# Altium footprint library passiveCompsLib.PcbLib: 32 footprints (part 2 of 2)
Each footprint in its own frame and in the unit in brackets; x right, y up, seen from the top. Pads: shape width x height; smd on the part's side, far side on the other; paste and mask are expansions set on the pad; w line width, h text height; cw(c..) or ccw(c..) is an arc to the next point about the centre after c.
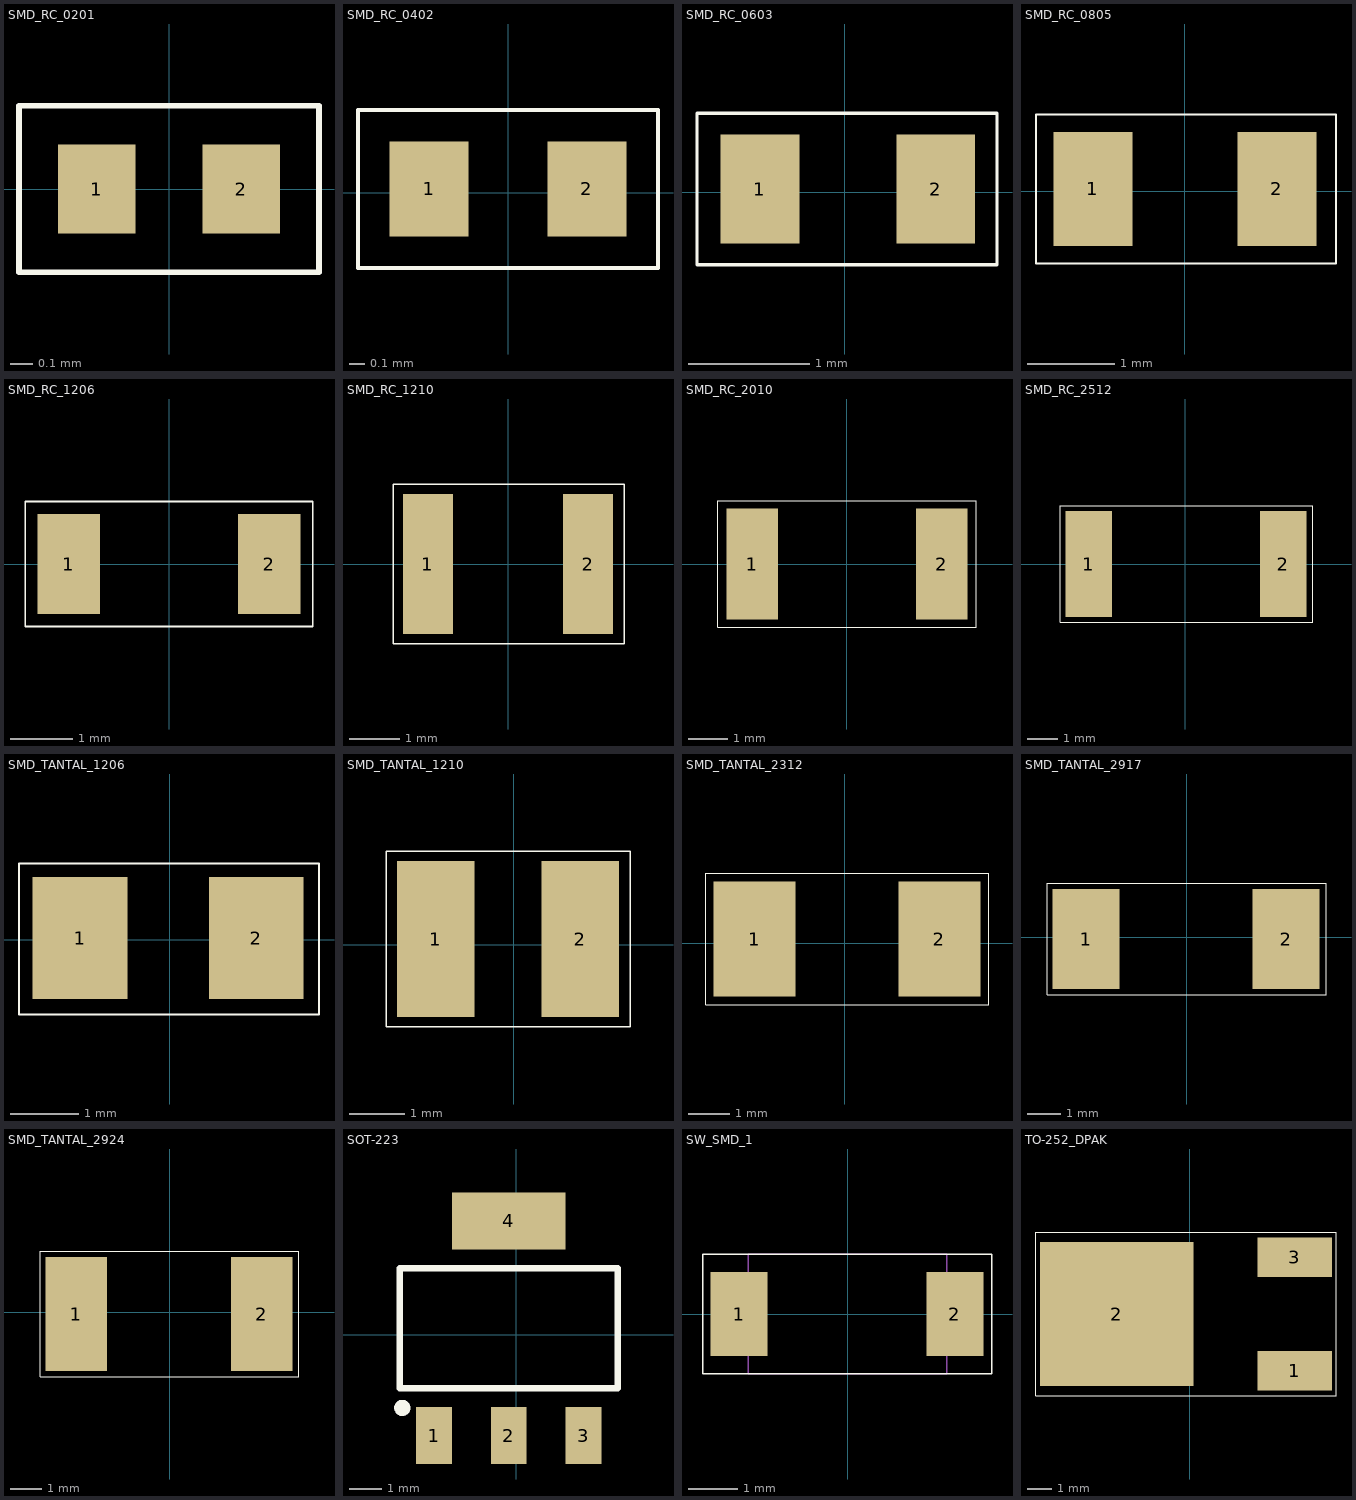
[diagram p1: the footprints below, top view; thin cyan lines are the x and y axes]

## SMD_RC_0201 [mm]
pads (2):
  rect 0.35x0.4 smd: 1(-0.325,0) 2(0.325,0)
Top Overlay:
  lines w0.025: -0.675,-0.375 -0.675,0.375 0.675,0.375 0.675,-0.375 -0.675,-0.375

## SMD_RC_0402 [mm]
pads (2):
  rect 0.5x0.6 smd: 1(-0.5,0.025) 2(0.5,0.025)
Top Overlay:
  lines w0.025: -0.95,-0.475 0.95,-0.475 0.95,0.525 -0.95,0.525 -0.95,-0.475

## SMD_RC_0603 [mm]
pads (2):
  rect 0.65x0.9 smd: 1(-0.7,0.025) 2(0.75,0.025)
Top Overlay:
  lines w0.025: -1.219,-0.6 -1.219,0.65 1.256,0.65 1.256,-0.6 -1.219,-0.6

## SMD_RC_0805 [mm]
pads (2):
  rect 0.9x1.3 smd: 1(-1.05,0.025) 2(1.05,0.025)
Top Overlay:
  lines w0.025: -1.7,-0.825 -1.7,0.875 1.725,0.875 1.725,-0.825 -1.7,-0.825

## SMD_RC_1206 [mm]
pads (2):
  rect 1x1.6 smd: 1(-1.6,0) 2(1.6,0)
Top Overlay:
  lines w0.025: -2.3,-1 -2.3,1 2.3,1 2.3,-1 -2.3,-1

## SMD_RC_1210 [mm]
pads (2):
  rect 1x2.8 smd: 1(-1.6,0) 2(1.6,0)
Top Overlay:
  lines w0.025: -2.3,-1.6 2.325,-1.6 2.325,1.6 -2.3,1.6 -2.3,-1.6

## SMD_RC_2010 [mm]
pads (2):
  rect 1.3x2.8 smd: 1(-2.4,0) 2(2.4,0)
Top Overlay:
  lines w0.025: -3.275,1.594 -3.269,1.6 3.275,1.6 3.275,-1.6 -3.275,-1.6 -3.275,1.6

## SMD_RC_2512 [mm]
pads (2):
  rect 1.55x3.5 smd: 1(-3.2,0) 2(3.25,0)
Top Overlay:
  lines w0.025: -4.15,-1.925 4.225,-1.925 4.225,1.925 -4.15,1.925 -4.15,-1.925

## SMD_TANTAL_1206 [mm]
pads (2):
  rect 1.4x1.8 smd: 1(-1.325,0.025) 2(1.275,0.025)
Top Overlay:
  lines w0.025: -2.225,-1.1 -2.225,1.125 2.2,1.125 2.2,-1.1 -2.225,-1.1

## SMD_TANTAL_1210 [mm]
pads (2):
  rect 1.4x2.8 smd: 1(-1.4,0.1) 2(1.2,0.1)
Top Overlay:
  lines w0.025: -2.293,-1.475 2.1,-1.475 2.1,1.675 -2.293,1.675 -2.293,-1.475

## SMD_TANTAL_2312 [mm]
pads (2):
  rect 2x2.8 smd: 1(-2.2,0.1) 2(2.3,0.1)
Top Overlay:
  lines w0.025: -3.393,-1.5 -3.393,1.7 3.5,1.7 3.5,-1.5 -3.393,-1.5

## SMD_TANTAL_2917 [mm]
pads (2):
  rect 2x3 smd: 1(-3.025,-0.05) 2(2.975,-0.05)
Top Overlay:
  lines w0.025: -4.193,-1.725 -4.193,1.625 4.175,1.625 4.175,-1.725 -4.193,-1.725

## SMD_TANTAL_2924 [mm]
pads (2):
  rect 2x3.7 smd: 1(-3.025,-0.05) 2(2.975,-0.05)
Top Overlay:
  lines w0.025: -4.193,-2.075 4.175,-2.075 4.175,1.975 -4.193,1.975 -4.193,-2.075

## SOT-223 [mm]
pads (4):
  rect 1.1x1.75 smd: 1(-2.525,-3.1) 2(-0.225,-3.1) 3(2.075,-3.1)
  rect 3.5x1.75 smd: 4(-0.225,3.5)
Top Overlay:
  circle w0.25: c-3.5,-2.25 r0.125
  lines w0.2: -3.575,-1.65 3.125,-1.65 3.125,2.05 -3.575,2.05 -3.575,-1.65
3D body "SOT-223-2.STEP": height 1.85, standoff -0.05, extent -3.575,-3.504 3.125,3.7

## SW_SMD_1 [mm]
pads (2):
  rect 1.15x1.7 smd: 1(-2.191,0) 2(2.159,0)
Top Overlay:
  lines w0.025: -2.925,-1.2 -2.925,1.2 2.9,1.2 2.9,-1.2 -2.925,-1.2
Mechanical 1:
  lines w0.025: -2.004,-1.2 -2.004,1.2 1.996,1.2 1.996,-1.2 -2.004,-1.2

## TO-252_DPAK [mm]
pads (3):
  rect 3x1.6 smd: 1(4.23,5.264) 3(4.23,9.836)
  rect 6.2x5.8 smd: 2(-2.95,7.55)
Top Overlay:
  lines w0.025: -6.218,4.25 -6.218,10.85 5.9,10.85 5.9,4.25 -6.218,4.25
3D body "User Library-TO252AA.STEP": height 2.3, standoff -0.01, extent -5.65,4.26 4.05,10.84